# Altium footprint library PCB - CONNECTOR - HARWIN - HARWIN M20-9740245.PcbLib: 1 footprints
Each footprint in its own frame and in the unit in brackets; x right, y up, seen from the top. Pads: shape width x height; smd on the part's side, far side on the other; paste and mask are expansions set on the pad; w line width, h text height; cw(c..) or ccw(c..) is an arc to the next point about the centre after c.
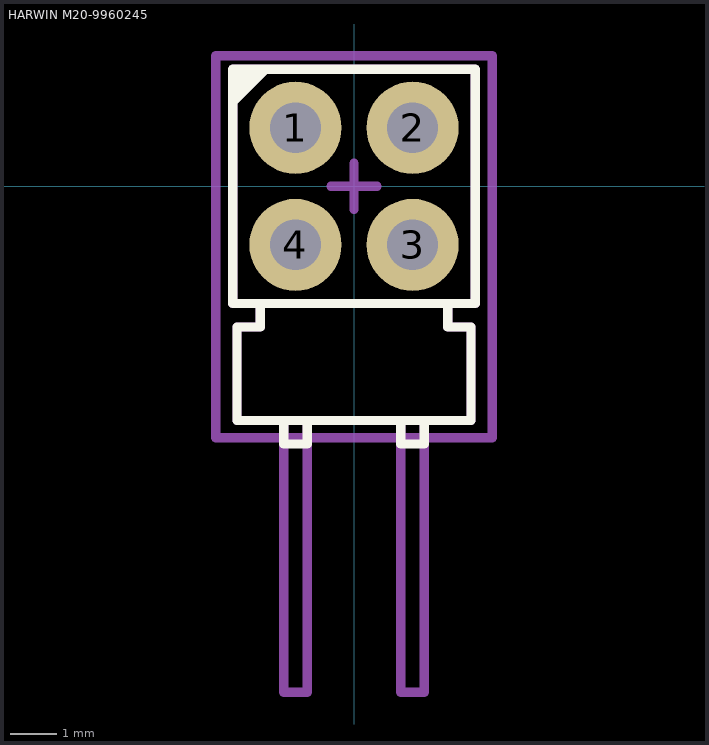
[diagram p0: the footprint, top view; thin cyan lines are the x and y axes]

## HARWIN M20-9960245 [mm] "2.54mm DIL PC TAIL PIN HEADER ASSEMBLY"
height 2.54
pads (4):
  round 2 hole 1.1: 1(-1.27,1.27) 2(1.27,1.27) 3(1.27,-1.27) 4(-1.27,-1.27)
Top Overlay:
  region: -2.65,2.57 -2.65,1.67 -1.75,2.57
  lines w0.2: -2.032,-2.54 -2.032,-3.048 -2.54,-3.048 -2.54,-5.08 2.54,-5.08 2.54,-3.048 2.032,-3.048 2.032,-2.54 ; -1.524,-5.08 -1.524,-5.588 -1.016,-5.588 -1.016,-5.08 ; 1.016,-5.08 1.016,-5.588 1.524,-5.588 1.524,-5.08 ; -2.63,-2.54 -2.63,2.54 2.63,2.54 2.63,-2.54 -2.63,-2.54
Top Assembly:
  lines w0.2: -1.524,-2.54 -2.032,-2.54 -2.032,-3.048 -2.54,-3.048 -2.54,-5.08 -1.524,-5.08 -1.524,-10.97 -1.016,-10.97 -1.016,-5.08 1.016,-5.08 1.016,-10.97 1.524,-10.97 1.524,-5.08 ; -0.5,0 0.5,0 ; 0,-0.5 0,0.5 ; 1.524,-2.54 2.032,-2.54 2.032,-3.048 2.54,-3.048 2.54,-5.08 ; 1.524,-5.08 2.54,-5.08 ; 1.524,-5.08 2.54,-5.08 ; -2.63,-2.54 2.63,-2.54 2.63,2.54 -2.63,2.54 -2.63,-2.54
Top Courtyard (Mech15):
  lines w0.2: -3,-5.454 3,-5.454 3,2.83 -3,2.83 -3,-5.454
3D body "M20-9740242.step": height 5, standoff -3.04, extent -2.54,-10.97 2.54,1.59